# Altium footprint library IRF Family.PcbLib: 2 footprints
Each footprint in its own frame and in the unit in brackets; x right, y up, seen from the top. Pads: shape width x height; smd on the part's side, far side on the other; paste and mask are expansions set on the pad; w line width, h text height; cw(c..) or ccw(c..) is an arc to the next point about the centre after c.
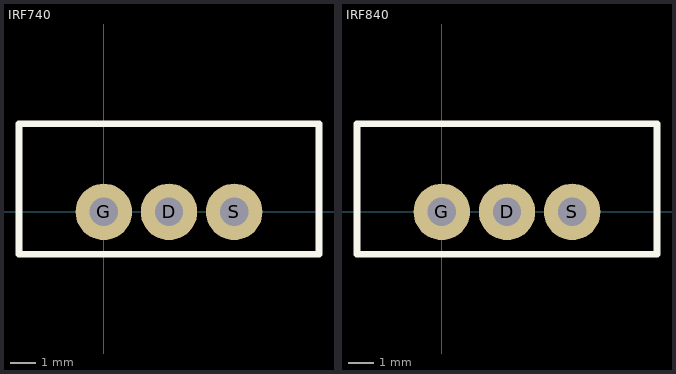
[diagram p0: the footprints below, top view; thin cyan lines are the x and y axes]

## IRF740 [mm] "N-Channel 400V 10A (Tc) 125W (Tc) Through Hole TO-220AB"
pads (3):
  round 2.2 hole 1.1: D(2.54,0) G(0,0) S(5.08,0)
Top Overlay:
  lines w0.254: -3.302,-1.651 -3.302,3.429 8.382,3.429 8.382,-1.651 8.255,-1.651 -3.175,-1.651 -3.302,-1.651
3D body "TO220AB.step": height 24.25, standoff -5.08, extent -3.066,-1.495 8.147,3.195

## IRF840 [mm] "N-Channel 500V 8A (Tc) 125W (Tc) Through Hole TO-220AB"
pads (3):
  round 2.2 hole 1.1: D(2.54,0) G(0,0) S(5.08,0)
Top Overlay:
  lines w0.254: -3.302,-1.651 -3.302,3.429 8.382,3.429 8.382,-1.651 8.255,-1.651 -3.175,-1.651 -3.302,-1.651
3D body "TO220AB.step": height 24.25, standoff -5.08, extent -3.066,-1.495 8.147,3.195